# EAGLE library part ALS31313 (library main_board)
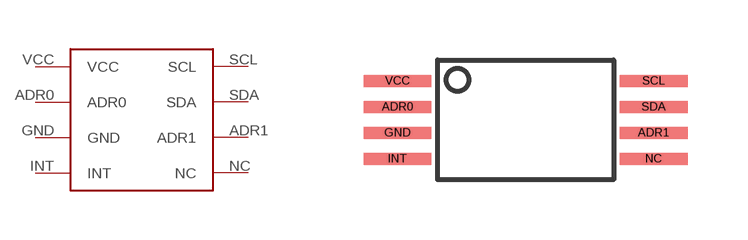
[diagram p1: symbol with the pads of ALS31313-500; footprint ALS31313-500]

Designator prefix -

## ALS31313  [ALS31313-500]
ADR0  ADR0  in
ADR1  ADR1  in
GND  GND  pwr
INT  INT  out
NC  NC  nc
SCL  SCL  in
SDA  SDA
VCC  VCC  pwr

## Footprint ALS31313-500 (pad centres in mm)
smd 1.7 x 0.3: ADR0 -3.2,0.325; ADR1 3.2,-0.325; GND -3.2,-0.325; INT -3.2,-0.975; NC 3.2,-0.975; SCL 3.2,0.975; SDA 3.2,0.325; VCC -3.2,0.975